# Altium schematic symbol library Version1.SCHLIB: 52 symbols
Pins are listed as number, name and electrical type; pins without a type are passive.

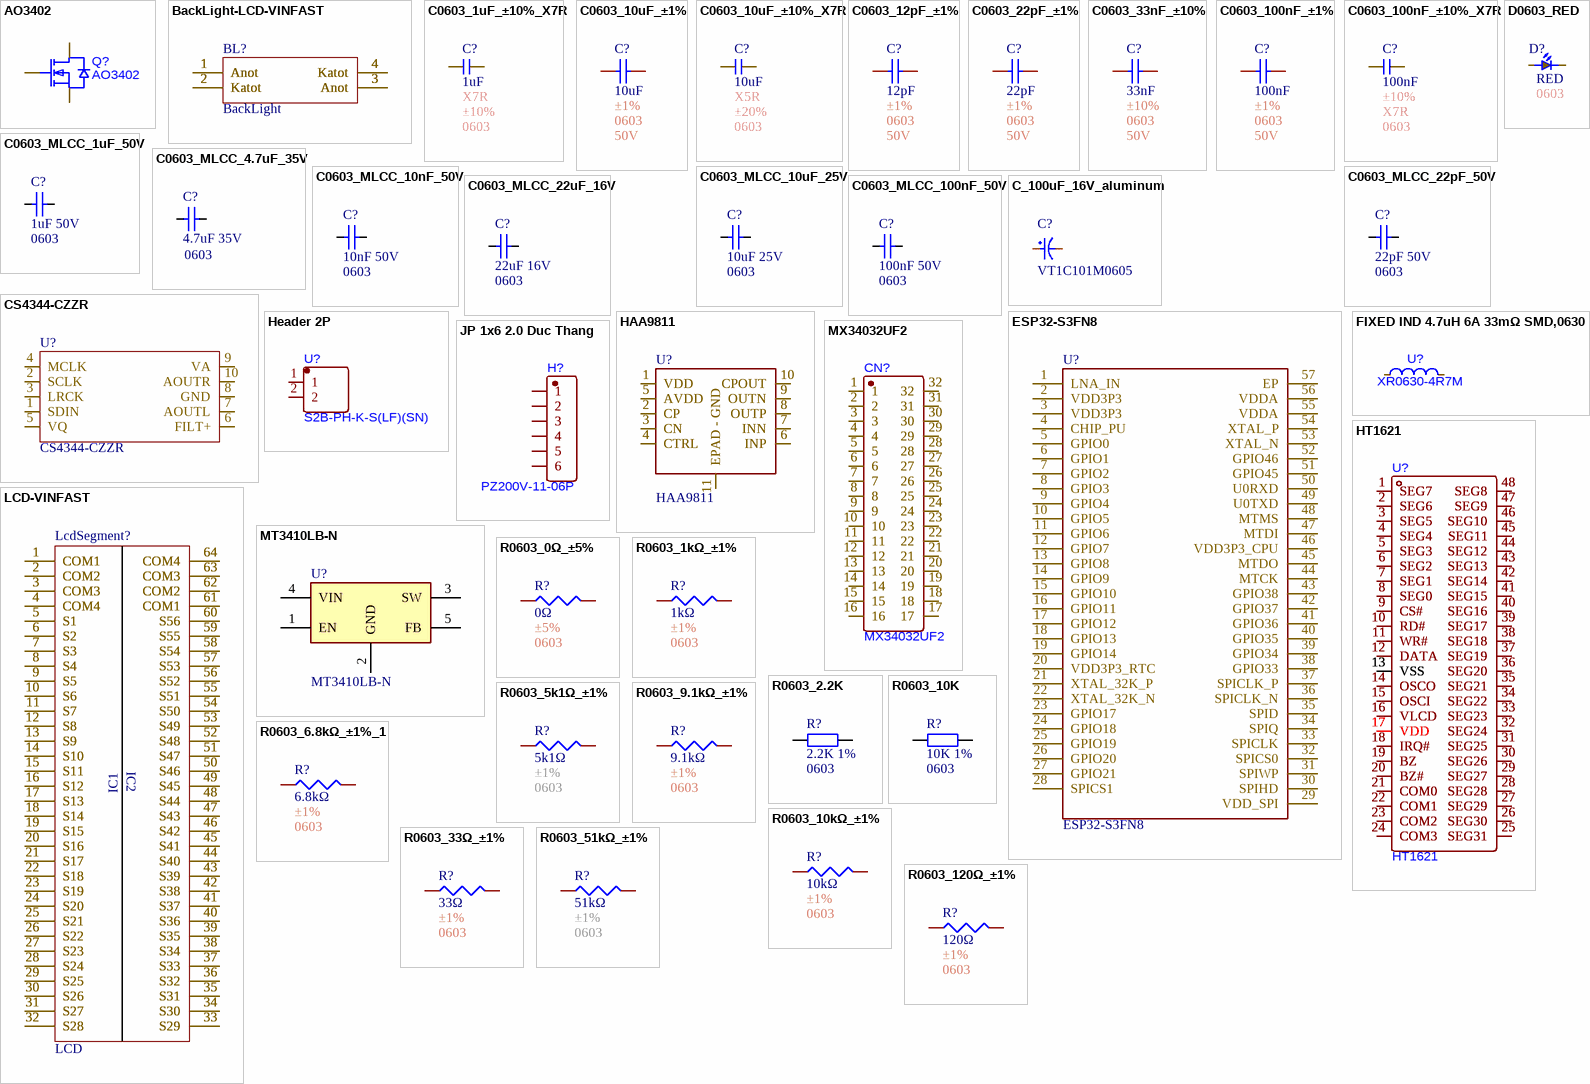
[diagram p0: symbols AO3402 to R0603_120Ω_±1%]

## AO3402
designator Q?
MOSFET N-CH 30V SOT-23; Manufacturer: AOS; MPN: AO3402; LCSC Part #: C14385; Packaging: SOT-23; Link: https://www.lcsc.com/product-detail/C14385.html?s_z=n_q_ao3402&spm=wm.fly.bg.0.xh&lcsc_vid=FFlaVlZURFlbX1EAE1lbUlZfQwdeBlBRQ1VZBFdQQwUxVlNeRVZXVF1QQ1BYXzsOAxUeFF5JWBYZEEoKFBINSQcJGk4NBhADEA4cHktXR1FWSQwSGg0%3D
footprint AO3402 (MOSFET N-CH 30V SOT-23)
pins: 1 G, 1 G, 1 G, 1 G, 2 S, 2 S, 2 S, 2 S, 3 D, 3 D, 3 D, 3 D

## BackLight-LCD-VINFAST
designator BL?, comment BackLight
footprint BACKLIGHT-VINFAST
pins: 1 Anot, 1 Anot, 1 Anot, 1 Anot, 1 Anot, 1 Anot, 1 Anot, 1 Anot, 2 Katot, 2 Katot, 2 Katot, 2 Katot, 2 Katot, 2 Katot, 2 Katot, 2 Katot, 3 Anot, 3 Anot, 3 Anot, 3 Anot, 3 Anot, 3 Anot, 3 Anot, 3 Anot, 4 Katot, 4 Katot, 4 Katot, 4 Katot, 4 Katot, 4 Katot, 4 Katot, 4 Katot

## C0603_1uF_±10%_X7R
designator C?, comment 1uF  Temperature Coefficient: X7R  Tolerance: ±10%  Package: 0603
50V 1uF X7R ±10% 0603 Multilayer Ceramic Capacitors MLCC - SMD/SMT ROHS; Manufacturer: YAGEO; Mfr. Part #: CC0603KRX7R9BB105; LCSC Part #: C559769; Capacitance: 1uF; Link: https://www.lcsc.com/product-detail/C559769.html?s_z=n_capital%25200603%25201uF%2520yageo
footprint C0603
pins: 1, 2

## C0603_10uF_±1%
designator C?, comment 10uF  Tolerance: ±1%  Package: 0603  Voltage Rating: 50V
Manufacturer: YAGEO; Mfr. Part #: CC0402FRNPO9BN100; LCSC Part #: C513681; Link: https://www.lcsc.com/product-detail/C513681.html?s_z=n_capital%2520yageo%252010pF%25200402; Capacitance: 10uF
footprint C0603
pins: 1, 2

## C0603_10uF_±10%_X7R
designator C?, comment 10uF  Temperature Coefficient: X5R  Tolerance: ±20%  Package: 0603
25V 10uF X5R ±20% 0603 Multilayer Ceramic Capacitors MLCC - SMD/SMT ROHS; Manufacturer: YAGEO; Mfr. Part #: CC0603MRX5R8BB106; LCSC Part #: C596327; Capacitance: 10uF; Link: https://www.lcsc.com/product-detail/C596327.html?s_z=n_capital%25200603%252010uF%2520yageo
footprint C0603
pins: 1, 2

## C0603_12pF_±1%
designator C?, comment 12pF  Tolerance: ±1%  Package: 0603  Voltage Rating: 50V
Manufacturer: YAGEO; Mfr. Part #: CC0402FRNPO9BN100; LCSC Part #: C513681; Link: https://www.lcsc.com/product-detail/C513681.html?s_z=n_capital%2520yageo%252010pF%25200402; Capacitance: 12pF
footprint C0603
pins: 1, 2

## C0603_22pF_±1%
designator C?, comment 22pF  Tolerance: ±1%  Package: 0603  Voltage Rating: 50V
Manufacturer: YAGEO; Mfr. Part #: CC0402FRNPO9BN100; LCSC Part #: C513681; Link: https://www.lcsc.com/product-detail/C513681.html?s_z=n_capital%2520yageo%252010pF%25200402; Capacitance: 22pF
footprint C0603
pins: 1, 2

## C0603_33nF_±10%
designator C?, comment 33nF  Tolerance: ±10%  Package: 0603  Voltage Rating: 50V
Manufacturer: YAGEO; Mfr. Part #: CC0603KRX7R9BB333; Temperature Coefficient: X7R; LCSC Part #: C106856; Link: https://www.lcsc.com/product-detail/C106856.html?s_z=n_capital%2520yageo%25200603%252033nF; Capacitance: 33nF
footprint C0603
pins: 1, 2

## C0603_100nF_±1%
designator C?, comment 100nF  Tolerance: ±1%  Package: 0603  Voltage Rating: 50V
Manufacturer: YAGEO; Mfr. Part #: CC0402FRNPO9BN100; LCSC Part #: C513681; Link: https://www.lcsc.com/product-detail/C513681.html?s_z=n_capital%2520yageo%252010pF%25200402; Capacitance: 100nF
footprint C0603
pins: 1, 2

## C0603_100nF_±10%_X7R
designator C?, comment 100nF  Tolerance: ±10%  Temperature Coefficient: X7R  Package: 0603
50V 100nF X7R ±10% 0603 Multilayer Ceramic Capacitors MLCC - SMD/SMT ROHS; Manufacturer: YAGEO; Mfr. Part #: CC0603KRX7R9BB104; LCSC Part #: C14663; Capacitance: 100nF; Link: https://www.lcsc.com/product-detail/C14663.html?s_z=n_capital%25200603%2520100nf
footprint C0603
pins: 1, 2

## C0603_MLCC_1uF_50V
designator C?, comment 1uF 50V  Package: 0603
1 µF ±10% 50V Ceramic Capacitor X5R 0603 (1608 Metric); Manufacturer: Murata Electronics; Manufacture Part Number: GRT188R61H105KE13D; Packaging: Cut Tape (CT); Link: https://www.digikey.com/en/products/detail/murata-electronics/GRT188R61H105KE13D/5416752
footprint C0603
pins: 1, 2

## C0603_MLCC_4.7uF_35V
designator C?, comment 4.7uF 35V  Package: 0603
35V 4.7uF X5R ±10% 0603 Multilayer Ceramic Capacitors MLCC - SMD/SMT ROHS; Manufacturer: TDK; Manufacture Part Number: C1608X5R1V475KT000E; Packaging: Cut Tape (CT); Link: https://www.lcsc.com/product-detail/Multilayer-Ceramic-Capacitors-MLCC-SMD-SMT_TDK-C1608X5R1V475KT000E_C329940.html?s_z=n_4.7uF%2050V%200603
footprint C0603
pins: 1, 2

## C0603_MLCC_10nF_50V
designator C?, comment 10nF 50V  Package: 0603
50V 10nF X7R ±10% 0603 Multilayer Ceramic Capacitors MLCC - SMD/SMT ROHS; Manufacturer: YAGEO; Manufacture Part Number: CC0603KRX7R9BB103; Packaging: Cut Tape (CT); Link: https://www.lcsc.com/product-detail/Multilayer-Ceramic-Capacitors-MLCC-SMD-SMT_YAGEO-CC0603KRX7R9BB103_C100042.html?s_z=n_10nF%2050V%200603
footprint C0603
pins: 1, 2

## C0603_MLCC_10uF_25V
designator C?, comment 10uF 25V  Package: 0603
25V 10uF X5R ±10% 0603 Multilayer Ceramic Capacitors MLCC - SMD/SMT ROHS; Manufacturer: Murata Electronics; Manufacture Part Number: GRM188R61E106KA73D; Packaging: Cut Tape (CT); Link: https://www.lcsc.com/product-detail/Multilayer-Ceramic-Capacitors-MLCC-SMD-SMT_Murata-Electronics-GRM188R61E106KA73D_C344022.html?s_z=n_10uF%2050V%200603
footprint C0603
pins: 1, 2

## C0603_MLCC_22pF_50V
designator C?, comment 22pF 50V  Package: 0603
50V 22pF NP0 ±5% 0603 Multilayer Ceramic Capacitors MLCC - SMD/SMT ROHS; Manufacturer: YAGEO; Manufacture Part Number: CC0603JRNPO9BN220; Packaging: Cut Tape (CT); Link: https://www.lcsc.com/product-detail/Multilayer-Ceramic-Capacitors-MLCC-SMD-SMT_YAGEO-CC0603JRNPO9BN220_C105620.html?s_z=n_22pF%2050V%200603
footprint C0603
pins: 1, 2

## C0603_MLCC_22uF_16V
designator C?, comment 22uF 16V  Package: 0603
16V 22uF X5R ±20% 0603 Multilayer Ceramic Capacitors MLCC - SMD/SMT ROHS; Manufacturer: Samsung Electro-Mechanics; Manufacture Part Number: CL10A226MO7JZNC; Packaging: Cut Tape (CT); Link: https://www.lcsc.com/product-detail/Multilayer-Ceramic-Capacitors-MLCC-SMD-SMT_Samsung-Electro-Mechanics-CL10A226MO7JZNC_C2762594.html?s_z=n_22uF%2050V%200603
footprint C0603
pins: 1, 2

## C0603_MLCC_100nF_50V
designator C?, comment 100nF 50V  Package: 0603
50V 100nF X7R ±10% 0603 Multilayer Ceramic Capacitors MLCC - SMD/SMT ROHS; Manufacturer: YAGEO; Manufacture Part Number: CC0603KRX7R9BB104; Packaging: Cut Tape (CT); Link: https://www.lcsc.com/product-detail/Multilayer-Ceramic-Capacitors-MLCC-SMD-SMT_YAGEO-CC0603KRX7R9BB104_C14663.html?s_z=n_100nF%2050V%200603
footprint C0603
pins: 1, 2

## C_100uF_16V_aluminum
designator C?, comment VT1C101M0605
100uF 16V ±20% 63mA@120Hz SMD,D6.3xL5.4mm Aluminum Electrolytic Capacitors RoHS; Manufacturer: ROQANG; Key Attributes: CAP ALUM 100uF ±20% 16V SMD; Mfr. Part #: VT1C101M0605; LCSC Part #: C90273; Package: SMD,D6.3xL5.4mm; Link: https://www.lcsc.com/product-detail/C90273.html?s_z=n_capital%2520100uf%2520aluminum
footprint C_100uF_16V_Aluminum (100uF 16V ±20% 63mA@120Hz SMD,D6.3xL5.4mm Aluminum Electrolytic Capacitors RoHS)
pins: 1, 2

## CS4344-CZZR
designator U?
250ms I2S 3.3V~5V 24 TSSOP-10-3mm Digital to Analog Converters (DAC) ROHS; Manufacturer: Cirrus Logic; Key Attributes: 10-Pin, 24-Bit, 192 kHz Stereo D/A Converter; Number of Channels: 2; Mfr. Part #: CS4344-CZZR; LCSC Part #: C8952; Package: TSSOP-10-3mm; Link: https://www.lcsc.com/product-detail/C8952.html?s_z=n_cs4344; Voltage - Supply: 3.3V~5V; Interface: I2S
footprint CS4344-CZZR
pins: 1 SDIN, 2 SCLK, 3 LRCK, 4 MCLK, 5 VQ, 6 FILT+, 7 AOUTL, 8 GND, 9 VA, 10 AOUTR

## D0603_RED
designator D?, comment RED  Package: 0603
25mcd~40mcd Water Clear -40℃~+85℃ 624nm Red 120° 60mW 0402 LED Indication - Discrete ROHS; Manufacturer: XINGLIGHT; Mfr. Part #: XL-1005UGC; Voltage - Forward(Vf): 3V; LCSC Part #: C965793; Power(Watts): 60mW; Link: https://www.lcsc.com/product-detail/C136765.html?s_z=n_LED%25200402%2520RED; Illumination Color: RED
footprint LED0603
pins: 1, 2

## ESP32-S3FN8
designator U?
QFN-56-EP(7x7) Microcontrollers (MCU/MPU/SOC) ROHS; Manufacturer: ESPRESSIF; LCSC Part #: C2913196; Package: QFN-56-EP(7x7); Link: https://www.lcsc.com/product-detail/C2913196.html?s_z=n_ESP32-S3FN8; Mfr. Part #: ESP32-S3FN8
footprint ESP32-S3FN8
pins: 1 LNA_IN, 2 VDD3P3, 3 VDD3P3, 4 CHIP_PU, 5 GPIO0, 6 GPIO1, 7 GPIO2, 8 GPIO3, 9 GPIO4, 10 GPIO5, 11 GPIO6, 12 GPIO7, 13 GPIO8, 14 GPIO9, 15 GPIO10, 16 GPIO11, 17 GPIO12, 18 GPIO13, 19 GPIO14, 20 VDD3P3_RTC, 21 XTAL_32K_P, 22 XTAL_32K_N, 23 GPIO17, 24 GPIO18, 25 GPIO19, 26 GPIO20, 27 GPIO21, 28 SPICS1, 29 VDD_SPI, 30 SPIHD, 31 SPIWP, 32 SPICS0, 33 SPICLK, 34 SPIQ, 35 SPID, 36 SPICLK_N, 37 SPICLK_P, 38 GPIO33, 39 GPIO34, 40 GPIO35, 41 GPIO36, 42 GPIO37, 43 GPIO38, 44 MTCK, 45 MTDO, 46 VDD3P3_CPU, 47 MTDI, 48 MTMS, 49 U0TXD, 50 U0RXD, 51 GPIO45, 52 GPIO46, 53 XTAL_N, 54 XTAL_P, 55 VDDA, 56 VDDA, 57 EP

## FIXED IND 4.7uH 6A 33mΩ SMD,0630
designator U?, comment XR0630-4R7M
FIXED IND 4.7uH 6A 33mΩ SMD,0630; Manufacturer: XR; MPN: XR0630-4R7M; LCSC Part #: C5307631; Packaging: SMD,7x6.6mm; Link: https://www.lcsc.com/product-detail/C5307631.html?s_z=n_q_t_INDUCTOR%25200630&spm=wm.fly.bg.0.xh___wm.ssy.tc.0.tz&lcsc_vid=FFlaVlZURFlbX1EAE1lbUlZfQwdeBlBRQ1VZBFdQQwUxVlNeRlRfU1ZRQlNZXzsOAxUeFF5JWBYZEEoKFBINSQcJGk4eFQsCAgIaSgADAwAHC0slQ1ZXV1NWWQkaCgg%3D
footprint SMD,7x6.6mm (FIXED IND 4.7uH 6A 33mO SMD,0630)
pins: 1 S, 2 F

## HAA9811
designator U?
Amplifier; Manufacturer: ChipSourceTek Technology; Manufacture Part Number: HAA9811; Packaging: Cut Tape (CT); Package: ESOP-10
footprint ESOP-10
pins: 1 VDD, 1 VDD, 2 CP, 2 CP, 3 CN, 3 CN, 4 CTRL, 4 CTRL, 5 AVDD, 5 AVDD, 6 INP, 6 INP, 7 INN, 7 INN, 8 OUTP, 8 OUTP, 9 OUTN, 9 OUTN, 10 CPOUT, 10 CPOUT, 11 EPAD - GND, 11 EPAD - GND

## Header 2P
designator U?, comment S2B-PH-K-S(LF)(SN)
CONN HEADER TH R/A 2POS 2mm; Manufacturer: JST; MPN: S2B-PH-K-S(LF)(SN); LCSC Part #: C173752; Packaging: Through Hole,Right Angle,P=2mm; Link: https://www.lcsc.com/product-detail/C173752.html?s_z=n_q_t_header%25202p&spm=wm.fly.bg.5.xh___wm.ssy.tc.0.tz&lcsc_vid=FFlaVlZURFlbX1EAE1lbUlZfQwdeBlBRQ1VZBFdQQwUxVlNeRFFaUlFSRFNdXzsOAxUeFF5JWBYZEEoKFBINSQcJGk4%3D
footprint Header 2P 2.0
pins: 1, 2

## HT1621
designator U?
LCD control and drive circuit; Manufacturer: HGSEMI; MPN: HT1621; LCSC Part #: C512789; Packaging: SSOP-48-300mil; Link: https://www.lcsc.com/product-detail/C512789.html?s_z=n_q_x_HT1621&spm=wm.ssy.em.0.tz&lcsc_vid=FFlaVlZURFlbX1EAE1lbUlZfQwdeBlBRQ1VZBFdQQwUxVlNeRVZfUF1RQ1VbUjsOAxUeFF5JWBYZEEoKFBINSQcJGk4%3D
footprint HT1621
pins: 1 SEG7, 1 SEG7, 1 SEG7, 1 SEG7, 2 SEG6, 2 SEG6, 2 SEG6, 2 SEG6, 3 SEG5, 3 SEG5, 3 SEG5, 3 SEG5, 4 SEG4, 4 SEG4, 4 SEG4, 4 SEG4, 5 SEG3, 5 SEG3, 5 SEG3, 5 SEG3, 6 SEG2, 6 SEG2, 6 SEG2, 6 SEG2, 7 SEG1, 7 SEG1, 7 SEG1, 7 SEG1, 8 SEG0, 8 SEG0, 8 SEG0, 8 SEG0, 9 CS#, 9 CS#, 9 CS#, 9 CS#, 10 RD#, 10 RD#, 10 RD#, 10 RD#, 11 WR#, 11 WR#, 11 WR#, 11 WR#, 12 DATA, 12 DATA, 12 DATA, 12 DATA, 13 VSS, 13 VSS, 13 VSS, 13 VSS, 14 OSCO, 14 OSCO, 14 OSCO, 14 OSCO, 15 OSCI, 15 OSCI, 15 OSCI, 15 OSCI, 16 VLCD, 16 VLCD, 16 VLCD, 16 VLCD, 17 VDD, 17 VDD, 17 VDD, 17 VDD, 18 IRQ#, 18 IRQ#, 18 IRQ#, 18 IRQ#, 19 BZ, 19 BZ, 19 BZ, 19 BZ, 20 BZ#, 20 BZ#, 20 BZ#, 20 BZ#, 21 COM0, 21 COM0, 21 COM0, 21 COM0, 22 COM1, 22 COM1, 22 COM1, 22 COM1, 23 COM2, 23 COM2, 23 COM2, 23 COM2, 24 COM3, 24 COM3, 24 COM3, 24 COM3, 25 SEG31, 25 SEG31, 25 SEG31, 25 SEG31, 26 SEG30, 26 SEG30, 26 SEG30, 26 SEG30, 27 SEG29, 27 SEG29, 27 SEG29, 27 SEG29, 28 SEG28, 28 SEG28, 28 SEG28, 28 SEG28, 29 SEG27, 29 SEG27, 29 SEG27, 29 SEG27, 30 SEG26, 30 SEG26, 30 SEG26, 30 SEG26, 31 SEG25, 31 SEG25, 31 SEG25, 31 SEG25, 32 SEG24, 32 SEG24, 32 SEG24, 32 SEG24, 33 SEG23, 33 SEG23, 33 SEG23, 33 SEG23, 34 SEG22, 34 SEG22, 34 SEG22, 34 SEG22, 35 SEG21, 35 SEG21, 35 SEG21, 35 SEG21, 36 SEG20, 36 SEG20, 36 SEG20, 36 SEG20, 37 SEG19, 37 SEG19, 37 SEG19, 37 SEG19, 38 SEG18, 38 SEG18, 38 SEG18, 38 SEG18, 39 SEG17, 39 SEG17, 39 SEG17, 39 SEG17, 40 SEG16, 40 SEG16, 40 SEG16, 40 SEG16, 41 SEG15, 41 SEG15, 41 SEG15, 41 SEG15, 42 SEG14, 42 SEG14, 42 SEG14, 42 SEG14, 43 SEG13, 43 SEG13, 43 SEG13, 43 SEG13, 44 SEG12, 44 SEG12, 44 SEG12, 44 SEG12, 45 SEG11, 45 SEG11, 45 SEG11, 45 SEG11, 46 SEG10, 46 SEG10, 46 SEG10, 46 SEG10, 47 SEG9, 47 SEG9, 47 SEG9, 47 SEG9, 48 SEG8, 48 SEG8, 48 SEG8, 48 SEG8

## JP 1x6 2.0 Duc Thang
designator H?, comment PZ200V-11-06P
CONN HEADER 6POS 2mm SINGLE ROW TH; Manufacturer: XFCN; MPN: PZ200V-11-06P; LCSC Part #: C541860; Packaging: Through Hole,P=2mm; Link: https://www.lcsc.com/product-detail/C541860.html?s_z=n_q_t_pin%2520header%25206%2520position&spm=wm.fly.bg.4.xh___wm.ssy.tc.0.tz&lcsc_vid=FFlaVlZURFlbX1EAE1lbUlZfQwdeBlBRQ1VZBFdQQwUxVlNeR1RZVlRQQ1JdXjsOAxUeFF5JWBYZEEoKFBINSQcJGk4NBhADEA4cHktRTlVADxALGw%3D%3D
footprint HDR-TH_6P-P2.00-V-M
pins: 1, 1, 2, 2, 3, 3, 4, 4, 5, 5, 6, 6

## LCD-VINFAST
designator LcdSegment?, comment LCD
footprint LCD-SEGMENT_VINFAST
pins: 1 COM1, 1 COM1, 1 COM1, 1 COM1, 2 COM2, 2 COM2, 2 COM2, 2 COM2, 3 COM3, 3 COM3, 3 COM3, 3 COM3, 4 COM4, 4 COM4, 4 COM4, 4 COM4, 5 S1, 5 S1, 5 S1, 5 S1, 6 S2, 6 S2, 6 S2, 6 S2, 7 S3, 7 S3, 7 S3, 7 S3, 8 S4, 8 S4, 8 S4, 8 S4, 9 S5, 9 S5, 9 S5, 9 S5, 10 S6, 10 S6, 10 S6, 10 S6, 11 S7, 11 S7, 11 S7, 11 S7, 12 S8, 12 S8, 12 S8, 12 S8, 13 S9, 13 S9, 13 S9, 13 S9, 14 S10, 14 S10, 14 S10, 14 S10, 15 S11, 15 S11, 15 S11, 15 S11, 16 S12, 16 S12, 16 S12, 16 S12, 17 S13, 17 S13, 17 S13, 17 S13, 18 S14, 18 S14, 18 S14, 18 S14, 19 S15, 19 S15, 19 S15, 19 S15, 20 S16, 20 S16, 20 S16, 20 S16, 21 S17, 21 S17, 21 S17, 21 S17, 22 S18, 22 S18, 22 S18, 22 S18, 23 S19, 23 S19, 23 S19, 23 S19, 24 S20, 24 S20, 24 S20, 24 S20, 25 S21, 25 S21, 25 S21, 25 S21, 26 S22, 26 S22, 26 S22, 26 S22, 27 S23, 27 S23, 27 S23, 27 S23, 28 S24, 28 S24, 28 S24, 28 S24, 29 S25, 29 S25, 29 S25, 29 S25, 30 S26, 30 S26, 30 S26, 30 S26, 31 S27, 31 S27, 31 S27, 31 S27, 32 S28, 32 S28, 32 S28, 32 S28, 33 S29, 33 S29, 33 S29, 33 S29, 34 S30, 34 S30, 34 S30, 34 S30, 35 S31, 35 S31, 35 S31, 35 S31, 36 S32, 36 S32, 36 S32, 36 S32, 37 S33, 37 S33, 37 S33, 37 S33, 38 S34, 38 S34, 38 S34, 38 S34, 39 S35, 39 S35, 39 S35, 39 S35, 40 S36, 40 S36, 40 S36, 40 S36, 41 S37, 41 S37, 41 S37, 41 S37, 42 S38, 42 S38, 42 S38, 42 S38, 43 S39, 43 S39, 43 S39, 43 S39, 44 S40, 44 S40, 44 S40, 44 S40, 45 S41, 45 S41, 45 S41, 45 S41, 46 S42, 46 S42, 46 S42, 46 S42, 47 S43, 47 S43, 47 S43, 47 S43, 48 S44, 48 S44, 48 S44, 48 S44, 49 S45, 49 S45, 49 S45, 49 S45, 50 S46, 50 S46, 50 S46, 50 S46, 51 S47, 51 S47, 51 S47, 51 S47, 52 S48, 52 S48, 52 S48, 52 S48, 53 S49, 53 S49, 53 S49, 53 S49, 54 S50, 54 S50, 54 S50, 54 S50, 55 S51, 55 S51, 55 S51, 55 S51, 56 S52, 56 S52, 56 S52, 56 S52, 57 S53, 57 S53, 57 S53, 57 S53, 58 S54, 58 S54, 58 S54, 58 S54, 59 S55, 59 S55, 59 S55, 59 S55, 60 S56, 60 S56, 60 S56, 60 S56, 61 COM1, 61 COM1, 61 COM1, 61 COM1, 62 COM2, 62 COM2, 62 COM2, 62 COM2, 63 COM3, 63 COM3, 63 COM3, 63 COM3, 64 COM4, 64 COM4, 64 COM4, 64 COM4
text: IC2; IC1

## MT3410LB-N
designator U?
SOT-23-5 DC-DC Converters ROHS; Manufacturer: XI'AN Aerosemi Tech; Manufacture Part Number: MT3410LB-N; Packaging: Cut Tape; Link: https://www.lcsc.com/product-detail/DC-DC-Converters_XI-AN-Aerosemi-Tech-MT3410LB-N_C42420805.html?s_z=n_mt3410l; Package: SOT-23-5
footprint SOT23_5
pins: 1 EN, 2 GND, 3 SW, 4 VIN, 5 FB

## MX34032UF2
designator CN?
Compact Automotive Connector with 0.64mm Size Terminal; Manufacturer: JAE Electronics; MPN: MX34032UF2; LCSC Part #: C5357086; Packaging: Through Hole,P=2.2mm; Link: https://www.lcsc.com/product-detail/C5357086.html?s_z=s_p_t_MX34032UF2&spm=wm.fly.bg.1.xh___wm.ssy.tc.0.tz&lcsc_vid=FFlaVlZURFlbX1EAE1lbUlZfQwdeBlBRQ1VZBFdQQwUxVlNeRlRWVVFVQ1hcVjsOAxUeFF5JWBYZEEoKFBINSQcJGk4eFQsCAgIaSgADAwAHC0slQ1ddV1ZIHxUDCw%3D%3D
footprint MX34032UF2 (Compact Automotive Connector with 0.64mm Size Terminal)
pins: 1, 1, 2, 2, 3, 3, 4, 4, 5, 5, 6, 6, 7, 7, 8, 8, 9, 9, 10, 10, 11, 11, 12, 12, 13, 13, 14, 14, 15, 15, 16, 16, 17, 17, 18, 18, 19, 19, 20, 20, 21, 21, 22, 22, 23, 23, 24, 24, 25, 25, 26, 26, 27, 27, 28, 28, 29, 29, 30, 30, 31, 31, 32, 32

## R0603_0Ω_±5%
designator R?, comment 0Ω  Tolerance: ±5%  Package: 0603
100mW Thick Film Resistor 75V ±5% 0Ω 0603 Chip Resistor - Surface Mount ROHS; Manufacturer: YAGEO; Mfr. Part #: RC0603JR-070RL; Key Attributes: RES 0Ω ±5% 100mW 0603; LCSC Part #: C95177; Resistance: 0Ω; Link: https://www.lcsc.com/product-detail/C138066.html?s_z=n_resistor%25200402%252010R
footprint R0603
pins: 1, 2

## R0603_1kΩ_±1%
designator R?, comment 1kΩ  Tolerance: ±1%  Package: 0603
62.5mW Thick Film Resistor 50V ±1% ±200ppm/℃ 10Ω 0402 Chip Resistor - Surface Mount ROHS; Manufacturer: YAGEO; Mfr. Part #: RC0402FR-0710RL; LCSC Part #: C138066; Resistance: 1kΩ; Link: https://www.lcsc.com/product-detail/C138066.html?s_z=n_resistor%25200402%252010R
footprint R0603
pins: 1, 2

## R0603_2.2K
designator R?, comment 2.2K 1%  Package: 0603
2.2 kOhms ±1% 0.1W, 1/10W Chip Resistor 0603 (1608 Metric) Moisture Resistant Thick Film; Manufacturer: YAGEO; Manufacture Part Number: RC0603FR-072K2L; Packaging: Cut Tape (CT); Link: https://www.digikey.com/en/products/detail/yageo/RC0603FR-072K2L/727016
footprint RES_SMD_0603
pins: 1, 2

## R0603_5k1Ω_±1%
designator R?, comment 5k1Ω  Tolerance: ±1%  Package: 0603
100mW Thick Film Resistor 75V ±100ppm/℃ ±1% 5.1kΩ 0603 Chip Resistor - Surface Mount ROHS; Manufacturer: FOJAN; Mfr. Part #: FRC0603F5101TS; Key Attributes: RES 5.1kΩ ±1% 100mW 0603; LCSC Part #: C2907044; Link: https://www.lcsc.com/product-detail/C2907044.html?s_z=n_5k1%25200603; Resistance: 5k1Ω
footprint R0603
pins: 1, 2

## R0603_6.8kΩ_±1%_1
designator R?, comment 6.8kΩ  Tolerance: ±1%  Package: 0603
6.8k; Manufacturer: YAGEO; Mfr. Part #: RC0402FR-0710RL; LCSC Part #: C138066; Resistance: 6.8kΩ; Link: https://www.lcsc.com/product-detail/C138066.html?s_z=n_resistor%25200402%252010R
footprint R0603
pins: 1, 1, 2, 2

## R0603_9.1kΩ_±1%
designator R?, comment 9.1kΩ  Tolerance: ±1%  Package: 0603
9.1k; Manufacturer: YAGEO; Mfr. Part #: RC0402FR-0710RL; LCSC Part #: C138066; Resistance: 9.1kΩ; Link: https://www.lcsc.com/product-detail/C138066.html?s_z=n_resistor%25200402%252010R
footprint R0603
pins: 1, 1, 2, 2

## R0603_10K
designator R?, comment 10K 1%  Package: 0603
10 kOhms ±1% 0.1W, 1/10W Chip Resistor 0603 (1608 Metric) Moisture Resistant Thick Film; Manufacturer: YAGEO; Manufacture Part Number: RC0603FR-0710KL; Packaging: Cut Tape (CT); Link: https://www.digikey.com/en/products/detail/yageo/RC0603FR-0710KL/726880
footprint RES_SMD_0603
pins: 1, 2

## R0603_10kΩ_±1%
designator R?, comment 10kΩ  Tolerance: ±1%  Package: 0603
62.5mW Thick Film Resistor 50V ±1% ±200ppm/℃ 10Ω 0402 Chip Resistor - Surface Mount ROHS; Manufacturer: YAGEO; Mfr. Part #: RC0402FR-0710RL; LCSC Part #: C138066; Resistance: 10kΩ; Link: https://www.lcsc.com/product-detail/C138066.html?s_z=n_resistor%25200402%252010R
footprint R0603
pins: 1, 2

## R0603_33Ω_±1%
designator R?, comment 33Ω  Tolerance: ±1%  Package: 0603
62.5mW Thick Film Resistor 50V ±1% ±200ppm/℃ 10Ω 0402 Chip Resistor - Surface Mount ROHS; Manufacturer: YAGEO; Mfr. Part #: RC0402FR-0710RL; LCSC Part #: C138066; Resistance: 33Ω; Link: https://www.lcsc.com/product-detail/C138066.html?s_z=n_resistor%25200402%252010R
footprint R0603
pins: 1, 1, 2, 2

## R0603_51kΩ_±1%
designator R?, comment 51kΩ  Tolerance: ±1%  Package: 0603
100mW Thick Film Resistor 75V ±100ppm/℃ ±1% 51kΩ 0603 Chip Resistor - Surface Mount ROHS; Manufacturer: FOJAN; Mfr. Part #: FRC0603F5101TS; Key Attributes: RES 5.1kΩ ±1% 100mW 0603; LCSC Part #: C2907044; Link: https://www.lcsc.com/product-detail/C2907044.html?s_z=n_5k1%25200603; Resistance: 51kΩ
footprint R0603
pins: 1, 2

## R0603_120Ω_±1%
designator R?, comment 120Ω  Tolerance: ±1%  Package: 0603
62.5mW Thick Film Resistor 50V ±1% ±200ppm/℃ 10Ω 0402 Chip Resistor - Surface Mount ROHS; Manufacturer: YAGEO; Mfr. Part #: RC0402FR-0710RL; LCSC Part #: C138066; Resistance: 120Ω; Link: https://www.lcsc.com/product-detail/C138066.html?s_z=n_resistor%25200402%252010R
footprint R0603
pins: 1, 2

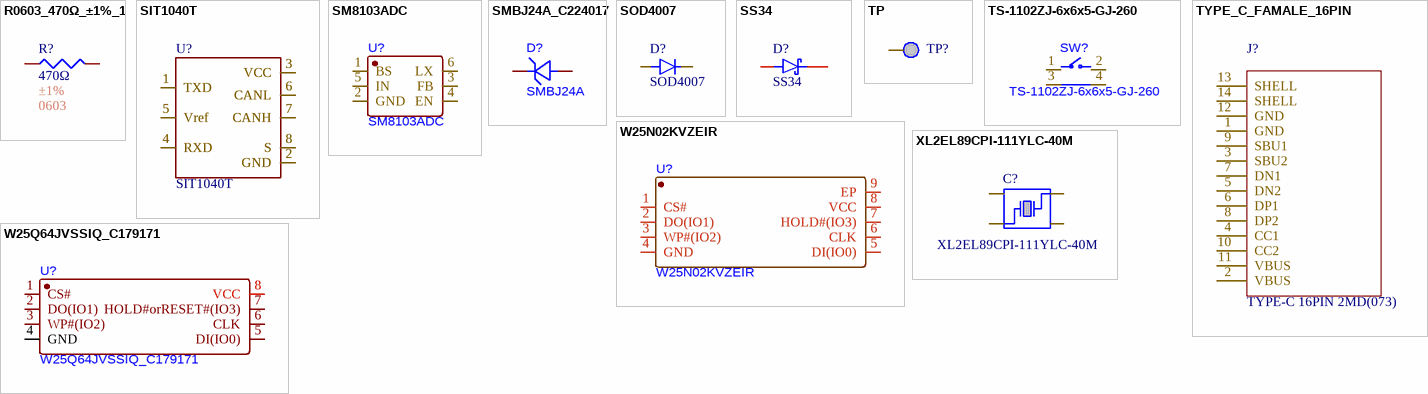
[diagram p1: symbols R0603_470Ω_±1%_1 to XL2EL89CPI-111YLC-40M]

## R0603_470Ω_±1%_1
designator R?, comment 470Ω  Tolerance: ±1%  Package: 0603
62.5mW Thick Film Resistor 50V ±1% ±200ppm/℃ 10Ω 0402 Chip Resistor - Surface Mount ROHS; Manufacturer: YAGEO; Mfr. Part #: RC0603FR-07470RL; Key Attributes: RES 470Ω ±1% 100mW 0603; LCSC Part #: C114669; Resistance: 470Ω; Link: https://www.lcsc.com/product-detail/C114669.html?s_z=n_resistor%2520470%25CE%25A9%25200603%2520yageo
footprint R0603
pins: 1, 2

## SIT1040T
designator U?
1/1 Transceiver Half CANbus 8-SO; MF: NXP USA; MP: TJA1050; Package: SOIC-8 NXP USA; Value: *; Availability: Unavailable; SnapEDA_Link: https://www.snapeda.com/parts/TJA1050/NXP%20USA%20Inc./view-part/562764/?ref=snap; Price: None
footprint SO8
pins: 1 TXD, 1 TXD, 2 GND, 2 GND, 3 VCC, 3 VCC, 4 RXD, 4 RXD, 5 Vref, 5 Vref, 6 CANL, 6 CANL, 7 CANH, 7 CANH, 8 S, 8 S

## SM8103ADC
designator U?
High Efficiency, 3.0A, 18V Input Synchronous Step Down Regulator; Manufacturer: Silergy; MPN: SM8103ADC; LCSC Part #: C479070; Packaging: TSOT-23-6; Link: https://www.lcsc.com/product-detail/C479070.html?s_z=s_p_SM8103ADC&spm=wm.fly.bg.0.xh&lcsc_vid=FFlaVlZURFlbX1EAE1lbUlZfQwdeBlBRQ1VZBFdQQwUxVlNeRlReUVRTQVFeUDsOAxUeFF5JWBYZEEoKFBINSQcJGk4dAgUUFAk%3D
footprint TSOT-23-6 (High Efficiency, 3.0A, 18V Input Synchronous Step Down Regulator)
pins: 1 BS, 2 GND, 3 FB, 4 EN, 5 IN, 6 LX

## SMBJ24A_C224017
designator D?, comment SMBJ24A
TVS DIODE 24VWM 38.9VC DO-214AA; Manufacturer: Littelfuse; MPN: SMBJ24A; LCSC Part #: C224017; Packaging: DO-214AA; Link: https://www.lcsc.com/product-detail/C224017.html?s_z=n_q_smbj24&spm=wm.fly.bg.0.xh&lcsc_vid=FFlaVlZURFlbX1EAE1lbUlZfQwdeBlBRQ1VZBFdQQwUxVlNeRldYV11fR1hcUzsOAxUeFF5JWBYZEEoKFBINSQcJGk4NBhADEA4cHktRR1NADxALGw%3D%3D
footprint DO-214AA (TVS DIODE 24VWM 38.9VC DO-214AA)
pins: 1, 1, 1, 1, 1, 1, 1, 1, 2, 2, 2, 2, 2, 2, 2, 2

## SOD4007
designator D?
1A Independent 1kV 1.1V@1A SOD-123FL Diodes - General Purpose ROHS; Manufacturer: MDD(Microdiode Semiconductor); Mfr. Part #: SOD4007; Package: SOD-123FL; LCSC Part #: C18124; Link: https://www.lcsc.com/product-detail/C18124.html?s_z=n_SOD4007; Voltage - DC Reverse(Vr): 1kV; Current - Rectified: 1A
footprint SOD4007
pins: 1 C, 1 C, 2 A, 2 A

## SS34
designator D?
40V Independent 3A 550mV@3A SMA(DO-214AC) Schottky Diodes ROHS; Manufacturer: MDD(Microdiode Semiconductor); Mfr. Part #: SS34; LCSC Part #: C8678; Package: SMA(DO-214AC); Voltage - DC Reverse(Vr): 40V; Current - Rectified: 3A; Link: https://www.lcsc.com/product-detail/C8678.html?s_z=n_SS34
footprint SS34
pins: 1, 2

## TP
designator TP?  (value not drawn)
footprint TP
pins: 1

## TS-1102ZJ-6x6x5-GJ-260
designator SW?
12V With Bracket 6mm Round Button 7.5mm SPST-NO 50mA Through Hole Tactile Switches RoHS; Manufacturer: CAX; MPN: TS-1102ZJ-6x6x5-GJ-260; LCSC Part #: C53431197; Packaging: Through Hole; Link: https://www.lcsc.com/product-detail/C53431197.html?s_z=n_q_button%25206x6&spm=wm.fly.bg.26.xh&lcsc_vid=FFlaVlZURFlbX1EAE1lbUlZfQwdeBlBRQ1VZBFdQQwUxVlNeRVNZVlReQlNWVzsOAxUeFF5JWBYZEEoKFBINSQcJGk4eFQsCAgIaSgADAwAHC0slQ1hcU1JfRFhADxALGw%3D%3D
footprint TS-1102ZJ-6x6x5-GJ-260 (12V With Bracket 6mm Round Button 7.5mm SPST-NO 50mA Through Hole Tactile Switches RoHS)
pins: 1, 2, 3, 4

## TYPE_C_FAMALE_16PIN
designator J?, comment TYPE-C 16PIN 2MD(073)
3A 1 Surface Mount, Right Angle 16P Female -25℃~+85℃ Type-C SMD USB Connectors ROHS; Manufacturer: SHOU HAN; Mfr. Part #: TYPE-C 16PIN 2MD(073); LCSC Part #: C2765186; Package: SMD; Number of Contacts: 16P; Link: https://www.lcsc.com/product-detail/C2765186.html?s_z=n_type%2520c
footprint TYPE_C_FAMALE
pins: 1 GND, 2 VBUS, 3 SBU2, 4 CC1, 5 DN2, 6 DP1, 7 DN1, 8 DP2, 9 SBU1, 10 CC2, 11 VBUS, 12 GND, 13 SHELL, 14 SHELL

## W25N02KVZEIR
designator U?
SPI NAND Flash Memory with Dual/Quad SPI, Buffer Read & Sequential Read; Manufacturer: Winbond; MPN: W25N02KVZEIR; LCSC Part #: C3010298; Packaging: WSON-8-EP(6x8); Link: https://www.lcsc.com/product-detail/C3010298.html?s_z=n_q_w25n02kv&spm=wm.fly.bg.0.xh&lcsc_vid=FFlaVlZURFlbX1EAE1lbUlZfQwdeBlBRQ1VZBFdQQwUxVlNeRlRfUVFQQFFfUjsOAxUeFF5JWBYZEEoKFBINSQcJGk4dAgUUFAk%3D
footprint WSON-8-EP(6x8) (SPI NAND Flash Memory with Dual/Quad SPI, Buffer Read & Sequential Read)
pins: 1 CS#, 1 CS#, 2 DO(IO1), 2 DO(IO1), 3 WP#(IO2), 3 WP#(IO2), 4 GND, 4 GND, 5 DI(IO0), 5 DI(IO0), 6 CLK, 6 CLK, 7 HOLD#(IO3), 7 HOLD#(IO3), 8 VCC, 8 VCC, 9 EP, 9 EP

## W25Q64JVSSIQ_C179171
designator U?
footprint Winbond W25Q64JVSSIQ
pins: 1 CS#, 2 DO(IO1), 3 WP#(IO2), 4 GND, 5 DI(IO0), 6 CLK, 7 HOLD#orRESET#(IO3), 8 VCC

## XL2EL89CPI-111YLC-40M
designator C?
Crystal Oscillator 15pF SMD3225-4P Crystals RoHS; Manufacturer: YXC Crystal Oscillators; Mfr. Part #: XL2EL89CPI-111YLC-40M; LCSC Part #: C5444549; Package: SMD3225-4P; Link: https://www.lcsc.com/product-detail/C5444549.html?s_z=n_oscillator; Key Attributes: Crystal Oscillator 15pF SMD3225-4P Crystals RoHS
footprint XL2EL89CPI-111YLC-40M (CRYSTAL 40MHz 15pF SMD)
pins: 1, 2, 3, 4